# Altium schematic symbol library SEM_BMS.SchLib: 30 symbols
Pins are listed as number, name and electrical type; pins without a type are passive.

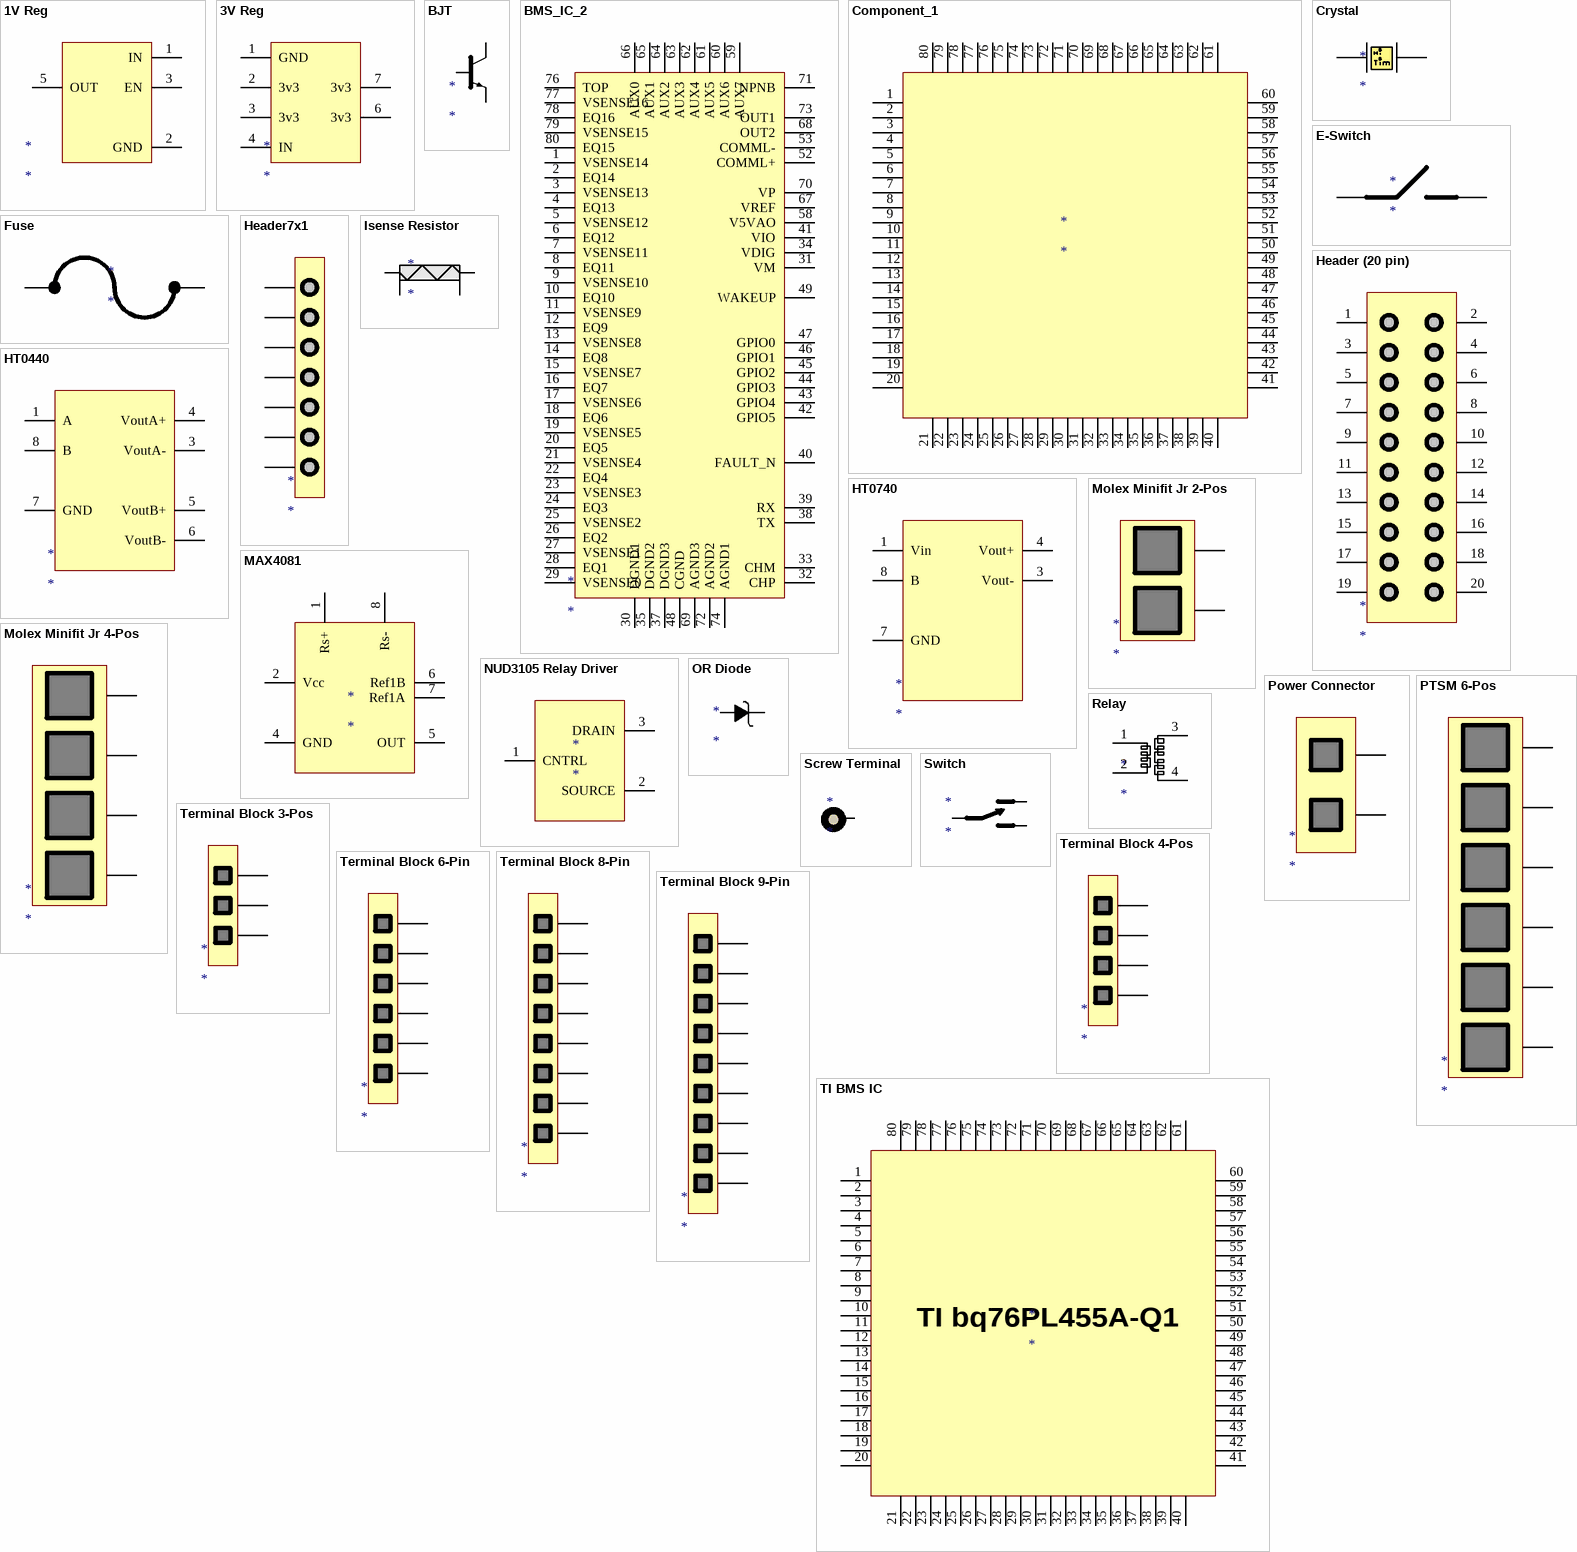
[diagram p0: symbols 1V Reg to TI BMS IC]

## 1V Reg
designator *
footprint SOT23-5Lead (SOT23, 5-Leads, Body 2.95x2.80mm, Pitch 0.95mm, IPC Medium Density)
pins: 1 IN, 2 GND, 3 EN, 5 OUT

## 3V Reg
designator *
footprint SOIC8
pins: 1 GND, 2 3v3, 3 3v3, 4 IN, 6 3v3, 7 3v3

## BJT
designator *
footprint SOT23 (SOT23, 3-Leads, Body 2.90x2.45mm, Pitch 0.95mm, IPC Medium Density)
pins: 1, 2, 3

## BMS_IC_2
designator *
footprint TI BQ76PL455A
pins: 1 VSENSE14, 2 EQ14, 3 VSENSE13, 4 EQ13, 5 VSENSE12, 6 EQ12, 7 VSENSE11, 8 EQ11, 9 VSENSE10, 10 EQ10, 11 VSENSE9, 12 EQ9, 13 VSENSE8, 14 EQ8, 15 VSENSE7, 16 EQ7, 17 VSENSE6, 18 EQ6, 19 VSENSE5, 20 EQ5, 21 VSENSE4, 22 EQ4, 23 VSENSE3, 24 EQ3, 25 VSENSE2, 26 EQ2, 27 VSENSE1, 28 EQ1, 29 VSENSE0, 30 DGND1, 31 VM, 32 CHP, 33 CHM, 34 VDIG, 35 DGND2, 37 DGND3, 38 TX, 39 RX, 40 FAULT_N, 41 VIO, 42 GPIO5, 43 GPIO4, 44 GPIO3, 45 GPIO2, 46 GPIO1, 47 GPIO0, 48 CGND, 49 WAKEUP, 52 COMML+, 53 COMML-, 58 V5VAO, 59 AUX7, 60 AUX6, 61 AUX5, 62 AUX4, 63 AUX3, 64 AUX2, 65 AUX1, 66 AUX0, 67 VREF, 68 OUT2, 69 AGND3, 70 VP, 71 NPNB, 72 AGND2, 73 OUT1, 74 AGND1, 76 TOP, 77 VSENSE16, 78 EQ16, 79 VSENSE15, 80 EQ15

## Component_1
designator *
footprint TSQFP50P1400X1400X105-80N (TSQFP, 80-Leads, Body 12.00x12.00mm, Pitch 0.50mm, IPC Medium Density)
pins: 1, 2, 3, 4, 5, 6, 7, 8, 9, 10, 11, 12, 13, 14, 15, 16, 17, 18, 19, 20, 21, 22, 23, 24, 25, 26, 27, 28, 29, 30, 31, 32, 33, 34, 35, 36, 37, 38, 39, 40, 41, 42, 43, 44, 45, 46, 47, 48, 49, 50, 51, 52, 53, 54, 55, 56, 57, 58, 59, 60, 61, 62, 63, 64, 65, 66, 67, 68, 69, 70, 71, 72, 73, 74, 75, 76, 77, 78, 79, 80

## Crystal
designator *
footprint ABMM2-OSC
pins: 1, 2

## E-Switch
designator *
pins: 1, 2

## Fuse
designator *
footprint Fuse Holder
pins: 1, 2

## Header7x1
designator *
footprint Header7x1
pins: 1, 2, 3, 4, 5, 6, 7

## Header (20 pin)
designator *
footprint Header10x2
pins: 1, 2, 3, 4, 5, 6, 7, 8, 9, 10, 11, 12, 13, 14, 15, 16, 17, 18, 19, 20

## HT0440
designator *
footprint SOIC-8
pins: 1 A, 3 VoutA-, 4 VoutA+, 5 VoutB+, 6 VoutB-, 7 GND, 8 B

## HT0740
designator *
footprint SOIC8
pins: 1 Vin, 3 Vout-, 4 Vout+, 7 GND, 8 B

## Isense Resistor
designator *
footprint SenseResistor (Vishay-Dale Low-Ohm Resistor)
pins: 1 IN, 2 OUT, 3 senseHI, 4 senseLOW

## MAX4081
designator *
footprint SOIC8
pins: 1 Rs+, 2 Vcc, 4 GND, 5 OUT, 6 Ref1B, 7 Ref1A, 8 Rs-

## Molex Minifit Jr 2-Pos
designator *
pins: 1, 2

## Molex Minifit Jr 4-Pos
designator *
footprint MINIFITJR 2X2
pins: 1, 2, 3, 4

## NUD3105 Relay Driver
designator *
footprint SOT23 (SOT23, 3-Leads, Body 2.90x2.45mm, Pitch 0.95mm, IPC Medium Density)
pins: 1 CNTRL, 2 SOURCE, 3 DRAIN

## OR Diode
designator *
footprint POWERDI 5
pins: 1, 2

## Power Connector
designator *
pins: 1, 2

## PTSM 6-Pos
designator *
footprint PTSM 6-Pos
pins: 1, 2, 3, 4, 5, 6

## Relay
designator *
footprint JT-N Relay
pins: 1 coil1, 2 coil2, 3 OUT1, 4 OUT2

## Screw Terminal
designator *
footprint Screw Terminal
pins: 1 S

## Switch
designator *
footprint Switch
pins: 1, 2, 3

## Terminal Block 3-Pos
designator *
footprint PTSM 3-Pos
pins: 1, 2, 3

## Terminal Block 4-Pos
designator *
footprint PTSM 4-Pos
pins: 1, 2, 3, 4

## Terminal Block 6-Pin
designator *
footprint PTSM 6-Pos
pins: 1, 2, 3, 4, 5, 6

## Terminal Block 8-Pin
designator *
footprint Terminal Block 8-Pos
pins: 1, 2, 3, 4, 5, 6, 7, 8

## Terminal Block 9-Pin
designator *
footprint Terminal Block 9-Pos
pins: 1, 2, 3, 4, 5, 6, 7, 8, 9

## TI BMS IC
designator *
footprint TSQFP50P1400X1400X105-80N (TSQFP, 80-Leads, Body 12.00x12.00mm, Pitch 0.50mm, IPC Medium Density)
pins: 1, 2, 3, 4, 5, 6, 7, 8, 9, 10, 11, 12, 13, 14, 15, 16, 17, 18, 19, 20, 21, 22, 23, 24, 25, 26, 27, 28, 29, 30, 31, 32, 33, 34, 35, 36, 37, 38, 39, 40, 41, 42, 43, 44, 45, 46, 47, 48, 49, 50, 51, 52, 53, 54, 55, 56, 57, 58, 59, 60, 61, 62, 63, 64, 65, 66, 67, 68, 69, 70, 71, 72, 73, 74, 75, 76, 77, 78, 79, 80
text: TI bq76PL455A-Q1

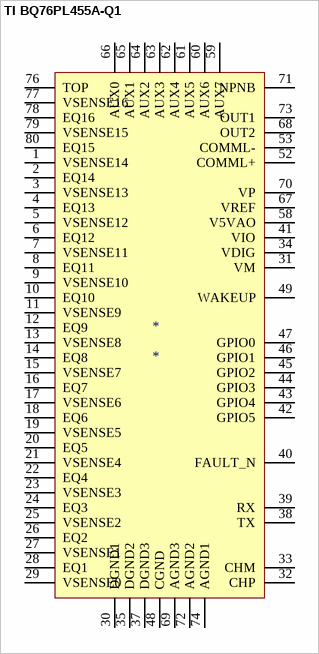
[diagram p1: symbol TI BQ76PL455A-Q1]

## TI BQ76PL455A-Q1
designator *
footprint TQFP-80
pins: 1 VSENSE14, 2 EQ14, 3 VSENSE13, 4 EQ13, 5 VSENSE12, 6 EQ12, 7 VSENSE11, 8 EQ11, 9 VSENSE10, 10 EQ10, 11 VSENSE9, 12 EQ9, 13 VSENSE8, 14 EQ8, 15 VSENSE7, 16 EQ7, 17 VSENSE6, 18 EQ6, 19 VSENSE5, 20 EQ5, 21 VSENSE4, 22 EQ4, 23 VSENSE3, 24 EQ3, 25 VSENSE2, 26 EQ2, 27 VSENSE1, 28 EQ1, 29 VSENSE0, 30 DGND1, 31 VM, 32 CHP, 33 CHM, 34 VDIG, 35 DGND2, 37 DGND3, 38 TX, 39 RX, 40 FAULT_N, 41 VIO, 42 GPIO5, 43 GPIO4, 44 GPIO3, 45 GPIO2, 46 GPIO1, 47 GPIO0, 48 CGND, 49 WAKEUP, 52 COMML+, 53 COMML-, 58 V5VAO, 59 AUX7, 60 AUX6, 61 AUX5, 62 AUX4, 63 AUX3, 64 AUX2, 65 AUX1, 66 AUX0, 67 VREF, 68 OUT2, 69 AGND3, 70 VP, 71 NPNB, 72 AGND2, 73 OUT1, 74 AGND1, 76 TOP, 77 VSENSE16, 78 EQ16, 79 VSENSE15, 80 EQ15